# Altium footprint library FootPrintLib_5.PCBLIB: 254 footprints (part 10 of 16)
Each footprint in its own frame and in the unit in brackets; x right, y up, seen from the top. Pads: shape width x height; smd on the part's side, far side on the other; paste and mask are expansions set on the pad; w line width, h text height; cw(c..) or ccw(c..) is an arc to the next point about the centre after c.
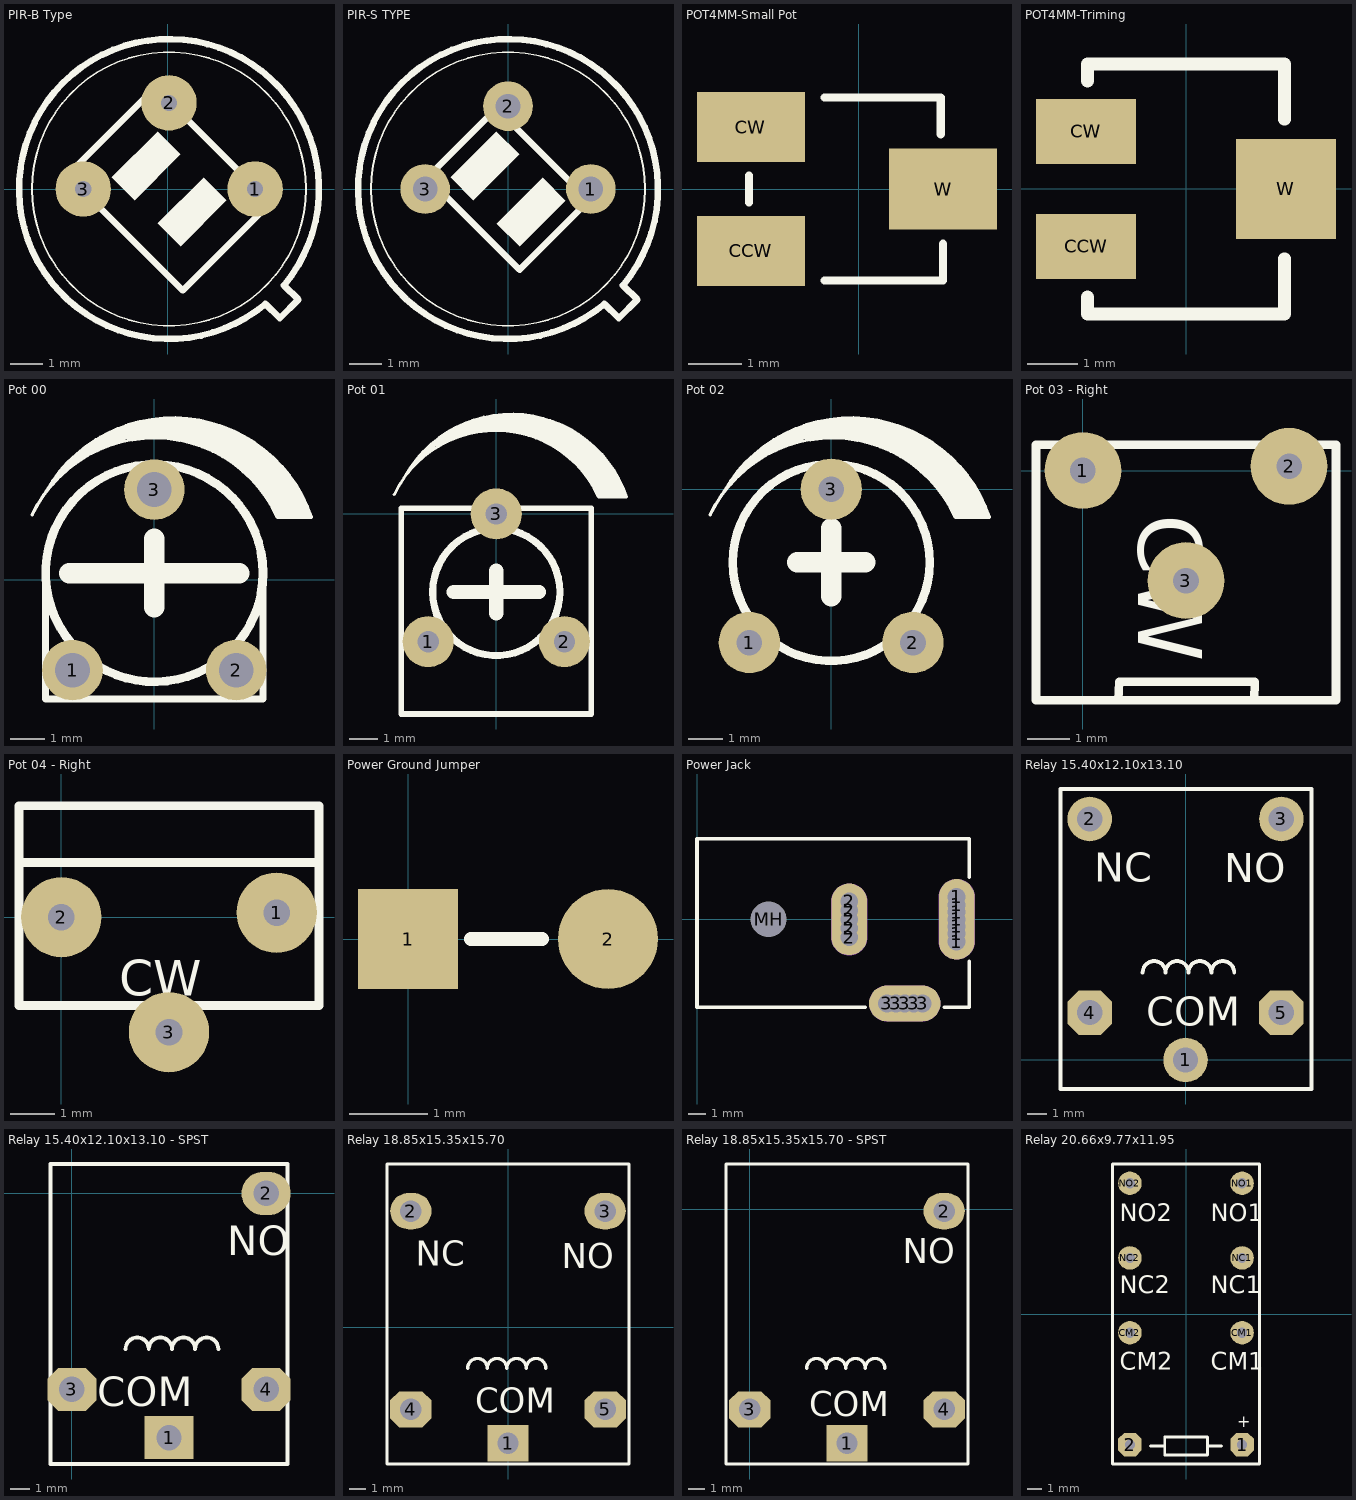
[diagram p9: the footprints below, top view; thin cyan lines are the x and y axes]

## PIR-B Type [mm] "For D203B and D204B PIR Sensors"
height 4.7
pads (3):
  round 1.7 hole 0.5: 1(2.68,0) 2(0.04,2.64) 3(-2.59,0)
Top Overlay:
  circle w0.05: c0.04,0 r4.2
  region: 1.105,0.358 -0.309,-1.056 0.398,-1.763 1.812,-0.349
  region: -0.309,1.772 -1.723,0.358 -1.016,-0.349 0.398,1.065
  lines w0.2: -3.071,0.424 -0.384,3.111 3.151,-0.424 0.464,-3.111 -3.071,0.424 ; 2.997,-3.524 cw(c0.04,0) 3.564,-2.957 4.01,-3.39 3.44,-3.96 2.997,-3.524

## PIR-S TYPE [mil] "For D203S and D204S PIR Sensors"
height 185.04
pads (3):
  round 60 hole 30: 1(100,0) 2(0,100) 3(-100,0)
Top Overlay:
  circle w1.97: c0,0 r165.35
  region: -13.92,69.6 -69.6,13.92 -41.76,-13.92 13.92,41.76
  region: 41.76,13.92 -13.92,-41.76 13.92,-69.6 69.59,-13.92
  lines w7.87: -97.44,13.92 13.92,-97.44 97.44,-13.92 -13.92,97.44 -97.44,13.92 ; 116.41,-138.73 cw(c0,0) 138.73,-116.41 156.3,-133.46 133.86,-155.91 116.41,-138.73
Mechanical 1:
  lines w7.87: 138.67,-116.36 139.19,-116.36
3D body "PIR_S_Orginal.STEP": height 185.04, standoff -78.74, extent -178.63,-177.59 179.64,179.49

## POT4MM-Small Pot [mm] "Square Trimming Potentiometer"
pads (3):
  rect 2x1.3 smd: CCW(-2,-1.15) CW(-2,1.15)
  rect 2x1.5 smd: W(1.568,0)
Top Overlay:
  lines w0.15: -2.032,-0.254 -2.032,0.254 ; -0.635,-1.7 1.568,-1.7 1.568,-1.016 ; -0.635,1.7 1.524,1.7 1.524,1.016
3D body "TRIMMER_PVG3A.STEP": height 2, standoff 0, extent -2.032,-1.7 1.568,1.7

## POT4MM-Triming [mm] "Square Trimming Potentiometer"
pads (3):
  rect 2x1.3 smd: CCW(-2,-1.15) CW(-2,1.15)
  rect 2x2 smd: W(2,0)
Top Overlay:
  lines w0.254: -1.97,-2.159 -1.97,-2.5 1.97,-2.5 1.97,-1.397 ; -1.97,2.159 -1.97,2.5 1.97,2.5 1.97,1.397
3D body "SW3dPS-Pot 3214.STEP": height 5.4, standoff 0, extent -1.97,-2.4 1.97,2.4

## Pot 00 [mil]
height 185.04
pads (3):
  round 70 hole 40: 1(-94.49,-104.33) 2(94.49,-104.33) 3(0,104.33)
Top Overlay:
  circle w10: c0,7.87 r125.59
  lines w3.94: -141.04,75.24 cw(c0,7.87) 142.47,72.16 180.95,72.15 ; -124.67,102.67 cw(c21.51,18.33) 181.5,72.05 ; -108.27,123.33 -97.64,133.07 ; -100.39,133.86 -94.88,133.86 ; -97.64,136.61 -90.16,136.61 ; -94.49,140.16 -85.04,140.16 ; -90.94,143.7 -79.13,143.7 ; -85.83,147.24 -72.05,147.24 ; -82.28,150.79 -64.17,150.79 ; -77.17,154.33 -56.69,154.33 ; -73.62,157.48 -46.06,157.48 ; -67.72,161.02 -34.25,161.02 ; -62.6,164.57 104.22,164.57 ; -55.51,168.11 97.93,168.11 ; -49.21,171.26 91.23,171.65 ; -42.13,174.41 84.15,174.8 ; -33.07,177.95 75.48,177.95 ; -20.47,181.5 61.7,181.5 ; -6.69,183.86 48.71,183.86 ; 31.89,161.02 110.13,161.02 ; 45.67,157.48 115.64,157.48 ; 55.51,153.94 120.37,153.94 ; 64.96,150.39 125.09,150.39 ; 72.44,146.85 129.42,146.85 ; 84.25,139.76 136.9,139.76 ; 90.55,136.22 140.84,136.22 ; 100,129.13 146.35,129.13 ; 108.66,122.44 152.65,122.44 ; 115.35,114.96 156.19,114.96 ; 120.08,112.2 158.56,112.2 ; 121.65,109.45 160.13,109.45 ; 124.02,106.69 162.49,106.69 ; 126.38,103.54 164.85,103.54 ; 130.71,96.06 169.19,96.06 ; 133.46,92.52 171.94,92.52 ; 134.65,88.98 173.12,88.98 ; 136.61,85.43 175.09,85.43 ; 137.8,82.28 176.27,82.28 ; 139.76,78.74 178.24,78.74 ; 140.94,75.59 179.42,75.59
  lines w4.72: 78.74,143.31 134.15,143.31 ; 95.28,132.68 143.99,132.68 ; 105.51,125.98 149.5,125.98 ; 111.02,118.9 155.01,118.9
  lines w5.91: 128.35,100 166.82,100
  lines w7.87: -125.59,15.75 -125.59,-137.8 125.59,-137.8 125.59,15.75
  lines w23.62: -98.43,7.87 98.43,7.87 ; 0,-31.5 0,47.24
3D body "pot.STEP": height 183.07, standoff -62.99, extent -124.8,-144.09 127.1,145.24

## Pot 01 [mm]
height 6.25
pads (3):
  round 1.8 hole 0.75: 1(-2.4,-4.5) 2(2.4,-4.5) 3(0,0)
Top Overlay:
  circle w0.254: c0,-2.75 r2.24
  lines w0.1: -3.601,0.678 cw(c-0.019,-1.033) 3.6,0.6 4.577,0.6 ; -3.185,1.375 cw(c0.527,-0.767) 4.591,0.597 ; -2.769,1.9 -2.499,2.147 ; -2.569,2.167 -2.429,2.167 ; -2.499,2.237 -2.309,2.237 ; -2.419,2.327 -2.179,2.327 ; -2.329,2.417 -2.029,2.417 ; -2.199,2.507 -1.849,2.507 ; -2.109,2.597 -1.649,2.597 ; -1.979,2.687 -1.459,2.687 ; -1.889,2.767 -1.189,2.767 ; -1.739,2.857 -0.889,2.857 ; -1.609,2.947 2.629,2.947 ; -1.429,3.037 2.469,3.037 ; -1.269,3.117 2.299,3.127 ; -1.089,3.197 2.119,3.207 ; -0.859,3.287 1.899,3.287 ; -0.539,3.377 1.549,3.377 ; -0.189,3.437 1.219,3.437 ; 0.791,2.857 2.779,2.857 ; 1.141,2.767 2.919,2.767 ; 1.391,2.677 3.039,2.677 ; 1.631,2.587 3.159,2.587 ; 1.821,2.497 3.269,2.497 ; 2.121,2.317 3.459,2.317 ; 2.281,2.227 3.559,2.227 ; 2.521,2.047 3.699,2.047 ; 2.741,1.877 3.859,1.877 ; 2.911,1.687 3.949,1.687 ; 3.031,1.617 4.009,1.617 ; 3.071,1.547 4.049,1.547 ; 3.131,1.477 4.109,1.477 ; 3.191,1.397 4.169,1.397 ; 3.301,1.207 4.279,1.207 ; 3.371,1.117 4.349,1.117 ; 3.401,1.027 4.379,1.027 ; 3.451,0.937 4.429,0.937 ; 3.481,0.857 4.459,0.857 ; 3.531,0.767 4.509,0.767 ; 3.561,0.687 4.539,0.687
  lines w0.12: 1.981,2.407 3.389,2.407 ; 2.401,2.137 3.639,2.137 ; 2.661,1.967 3.779,1.967 ; 2.801,1.787 3.919,1.787
  lines w0.15: 3.241,1.307 4.219,1.307
  lines w0.2: -3.35,-7.05 3.35,-7.05 3.35,0.2 -3.35,0.2 -3.35,-7.05
  lines w0.5: -1.5,-2.75 1.5,-2.75 ; 0,-3.5 0,-2

## Pot 02 [mm]
height 7.5
pads (3):
  round 1.8 hole 0.75: 1(-2.4,-4.5) 2(2.4,-4.5) 3(0,0)
Top Overlay:
  circle w0.254: c0,-2.15 r2.89
  lines w0.1: -3.55,-0.75 cw(c0.032,-2.461) 3.651,-0.828 4.628,-0.828 ; -3.134,-0.053 cw(c0.579,-2.196) 4.642,-0.831 ; -2.718,0.472 -2.448,0.719 ; -2.518,0.739 -2.378,0.739 ; -2.448,0.809 -2.258,0.809 ; -2.368,0.899 -2.128,0.899 ; -2.278,0.989 -1.978,0.989 ; -2.148,1.079 -1.798,1.079 ; -2.058,1.169 -1.598,1.169 ; -1.928,1.259 -1.408,1.259 ; -1.838,1.339 -1.138,1.339 ; -1.688,1.429 -0.838,1.429 ; -1.558,1.519 2.68,1.519 ; -1.378,1.609 2.52,1.609 ; -1.218,1.689 2.35,1.699 ; -1.038,1.769 2.17,1.779 ; -0.808,1.859 1.95,1.859 ; -0.488,1.949 1.6,1.949 ; -0.138,2.009 1.27,2.009 ; 0.842,1.429 2.83,1.429 ; 1.192,1.339 2.97,1.339 ; 1.442,1.249 3.09,1.249 ; 1.682,1.159 3.21,1.159 ; 1.872,1.069 3.32,1.069 ; 2.172,0.889 3.51,0.889 ; 2.332,0.799 3.61,0.799 ; 2.572,0.619 3.75,0.619 ; 2.792,0.449 3.91,0.449 ; 2.962,0.259 4,0.259 ; 3.082,0.189 4.06,0.189 ; 3.122,0.119 4.1,0.119 ; 3.182,0.049 4.16,0.049 ; 3.242,-0.031 4.22,-0.031 ; 3.352,-0.221 4.33,-0.221 ; 3.422,-0.311 4.4,-0.311 ; 3.452,-0.401 4.43,-0.401 ; 3.502,-0.491 4.48,-0.491 ; 3.532,-0.571 4.51,-0.571 ; 3.582,-0.661 4.56,-0.661 ; 3.612,-0.741 4.59,-0.741
  lines w0.12: 2.032,0.979 3.44,0.979 ; 2.452,0.709 3.69,0.709 ; 2.712,0.539 3.83,0.539 ; 2.852,0.359 3.97,0.359
  lines w0.15: 3.292,-0.121 4.27,-0.121
  lines w0.6: -1,-2.15 1,-2.15 ; 0,-3.15 0,-1.15

## Pot 03 - Right [mm]
height 7.85
pads (3):
  round 1.8 hole 0.6: 1(0,0) 2(4.83,0.1) 3(2.415,-2.58)
Top Overlay:
  lines w0.2: 0.83,-5.38 0.85,-4.95 4.03,-4.95 4.01,-5.38 ; -1.1,-5.38 -1.1,0.6 5.93,0.6 5.93,-5.38 -1.1,-5.38
  text "CW" at 1.295,-1.03 h1.5

## Pot 04 - Right [mm]
height 7.4
pads (3):
  round 1.8 hole 0.6: 1(4.83,0.1) 2(0,0) 3(2.415,-2.58)
Top Overlay:
  lines w0.2: -0.95,1.23 5.78,1.23 ; -0.95,-1.98 5.78,-1.98 5.78,2.5 -0.95,2.5 -0.95,-1.98
  text "CW" at 1.295,-1.76 h0.8

## Power Ground Jumper [mm]
pads (2):
  rect 1.27x1.27 smd: 1(0,0)
  round 1.27 smd: 2(2.54,0)
Top Overlay:
  lines w0.178: 0.8,0 1.7,0

## Power Jack [mm] "Power Adaptor Jack"
pads (18):
  round 1.5 hole 1: 1(14.5,-1.25) 1(14.5,-0.8) 1(14.5,-0.4) 1(14.5,0.4) 1(14.5,0.8) 1(14.5,1.25) 2(8.5,-1) 2(8.5,1) 2(8.5,-0.5) 2(8.5,0.5) 3(10.6,-4.7) 3(11.1,-4.7) 3(12.1,-4.7) 3(12.6,-4.7)
  oval 2x4.5 hole 1: 1(14.5,0)
  oval 2x4 hole 1: 2(8.5,0)
  oval 4x2 hole 1: 3(11.6,-4.7)
  round 1.9 hole 2: MH(4,0)
Top Overlay:
  lines w0.2: 9.4,-4.9 0,-4.9 0,4.5 15.2,4.5 15.2,2.35 ; 13.8,-4.9 15.2,-4.9 15.2,-2.35
Mechanical 1:
  lines w1: 8.5,-1 8.5,1 ; 10.6,-4.7 12.6,-4.7 ; 14.5,-1.25 14.5,1.25
Mechanical 2:
  lines w2.016: 8.5,-1 8.5,1 ; 10.6,-4.7 12.6,-4.7 ; 14.5,-1.25 14.5,1.25
3D body "SW3dPS-PowerJack-2.5x5.7mm.STEP": height 11, standoff -3.5, extent 0,-4.9 15.2,4.5

## Relay 15.40x12.10x13.10 [mm]
height 13.1
pads (5):
  round 2.3 hole 1.3: 1(0,0) 2(-4.95,12.45) 3(4.95,12.45)
  oct 2.3x2.3 hole 1.3: 4(-4.95,2.45) 5(4.95,2.45)
Top Overlay:
  lines w0.2: -2.213,4.515 cw(c-1.622,4.515) -1.031,4.515 cw(c-0.44,4.515) 0.151,4.515 cw(c0.742,4.515) 1.333,4.515 cw(c1.924,4.515) 2.515,4.515 ; -6.45,-1.5 6.5,-1.5 6.5,14 -6.45,14 -6.45,-1.5
  text "COM" at -2.032,1.778 h1.5
  text "NO" at 2.007,9.169 h1.5
  text "NC" at -4.724,9.22 h1.5
3D body "relay.STEP": height 15.6, standoff -2, extent -6.05,-1.3 6.05,14

## Relay 15.40x12.10x13.10 - SPST [mm]
height 13.1
pads (4):
  rect 2.5x2.2 hole 1.3: 1(4.95,-12.45)
  oval 2.5x2.2 hole 1.3: 2(9.9,0)
  oct 2.5x2.2 hole 1.3: 3(0,-10) 4(9.9,-10)
Top Overlay:
  lines w0.2: 2.737,-7.935 cw(c3.328,-7.935) 3.919,-7.935 cw(c4.51,-7.935) 5.101,-7.935 cw(c5.692,-7.935) 6.283,-7.935 cw(c6.874,-7.935) 7.465,-7.935 ; -1.1,-13.8 -1.1,1.5 11,1.5 11,-13.8 -1.1,-13.8
  text "NO" at 7.925,-3.15 h1.5
  text "COM" at 1.295,-10.86 h1.5

## Relay 18.85x15.35x15.70 [mm]
height 15.7
pads (5):
  rect 2.5x2.2 hole 1.3: 1(0,-7.025)
  oval 2.5x2.2 hole 1.3: 2(-5.875,7.025) 3(5.875,7.025)
  oct 2.5x2.2 hole 1.3: 4(-5.875,-4.975) 5(5.875,-4.975)
Top Overlay:
  lines w0.2: -2.438,-2.48 cw(c-1.847,-2.48) -1.256,-2.48 cw(c-0.665,-2.48) -0.074,-2.48 cw(c0.517,-2.48) 1.108,-2.48 cw(c1.699,-2.48) 2.29,-2.48 ; -7.325,-8.275 7.325,-8.275 7.325,9.875 -7.325,9.875 -7.325,-8.275
  text "NC" at -5.588,3.734 h1.5
  text "NO" at 3.251,3.556 h1.5
  text "COM" at -1.981,-5.182 h1.5
3D body "relay2.STEP": height 15.7, standoff -1.8, extent -7.366,-8.715 7.634,9.985

## Relay 18.85x15.35x15.70 - SPST [mm]
height 15.7
pads (4):
  rect 2.5x2.2 hole 1.3: 1(5.885,-14.15)
  oval 2.5x2.2 hole 1.3: 2(11.76,-0.1)
  oct 2.5x2.2 hole 1.3: 3(0.01,-12.1) 4(11.76,-12.1)
Top Overlay:
  lines w0.2: 3.447,-9.605 cw(c4.038,-9.605) 4.629,-9.605 cw(c5.22,-9.605) 5.811,-9.605 cw(c6.402,-9.605) 6.993,-9.605 cw(c7.584,-9.605) 8.175,-9.605 ; -1.44,-15.4 -1.44,2.75 13.21,2.75 13.21,-15.4 -1.44,-15.4
  text "COM" at 3.607,-12.522 h1.5
  text "NO" at 9.246,-3.251 h1.5

## Relay 20.66x9.77x11.95 [mm]
height 11.95
pads (8):
  oct 1.6x1.6 hole 0.7: 1(3.81,-8.89) 2(-3.81,-8.89)
  round 1.6 hole 0.7: CM1(3.81,-1.27) CM2(-3.81,-1.27) NC1(3.81,3.81) NC2(-3.81,3.81) NO1(3.81,8.89) NO2(-3.81,8.89)
Top Overlay:
  lines w0.2: -2.4,-8.98 -1.447,-8.98 ; 1.472,-8.98 2.4,-8.98 ; -5,-10.2 -5,10.2 5,10.2 5,-10.2 -5,-10.2 ; -1.447,-9.59 -1.447,-8.371 1.472,-8.371 1.472,-9.59 -1.447,-9.59
  text "+" at 3.5,-7.7 h0.8
  text "CM1" at 1.7,-3.8 h1.2
  text "NC1" at 1.7,1.4 h1.2
  text "NO1" at 1.7,6.3 h1.2
  text "NO2" at -4.5,6.3 h1.2
  text "NC2" at -4.5,1.4 h1.2
  text "CM2" at -4.5,-3.8 h1.2
3D body "OMROM G5V-2 DPDT Mini Relay -TH.STEP": height 11, standoff -3.7, extent -4.925,-10.1 4.925,10.1